# Altium schematic symbol library TIDA_00620.SchLib: 58 symbols (part 4 of 5)
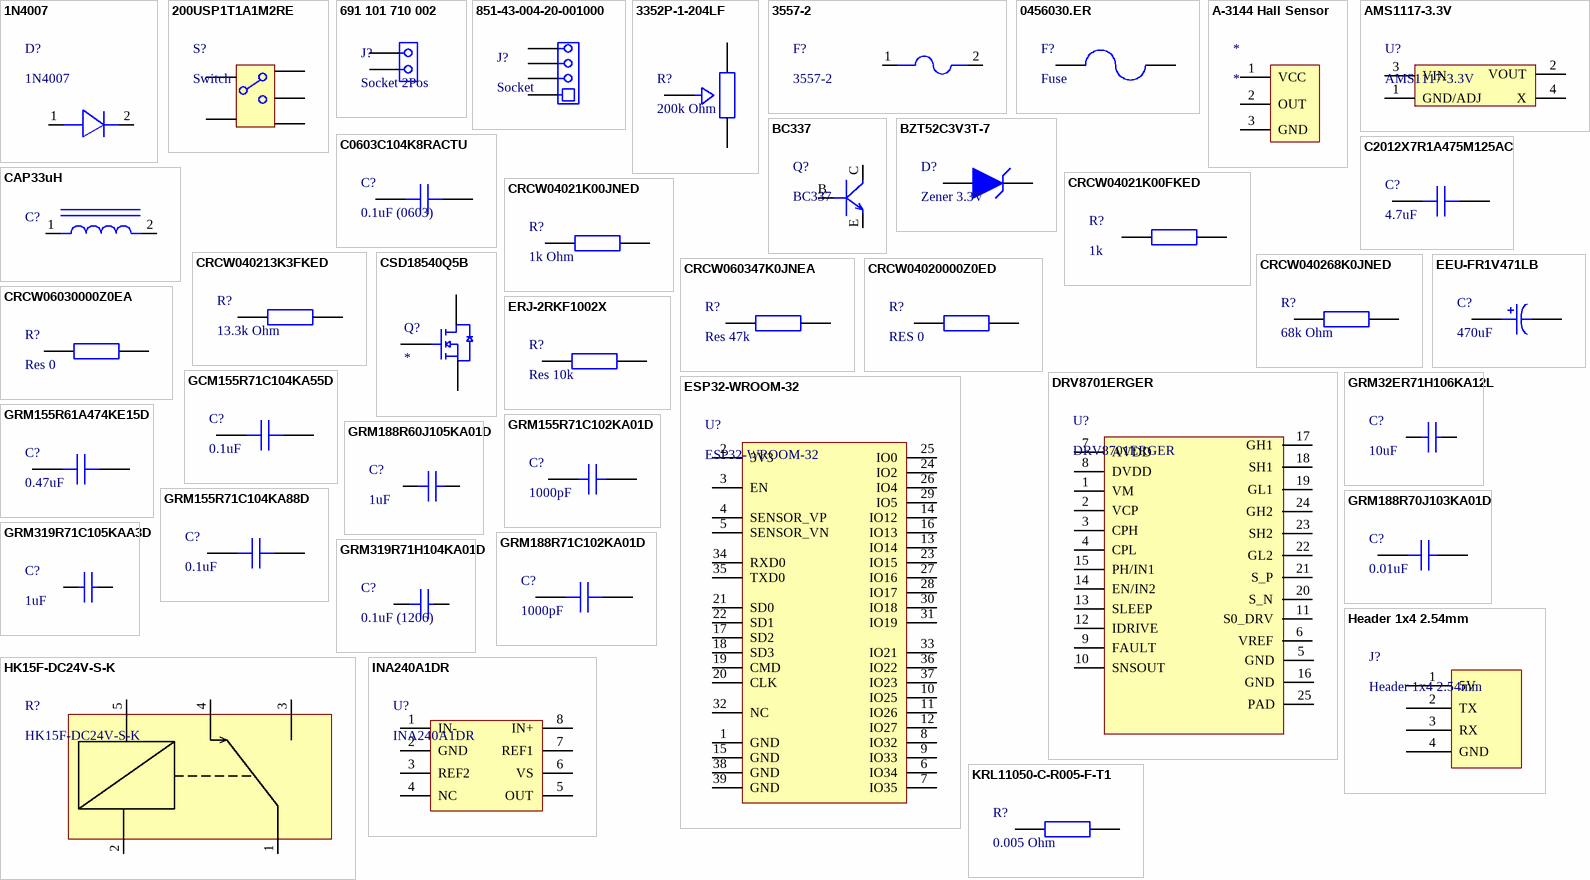
[diagram p4: symbols 1N4007 to KRL11050-C-R005-F-T1]

## GRM155R71C102KA01D
designator C?, comment 1000pF
0402 1 nF 16 V ±10% Tolerance X7R SMT Multilayer Ceramic Capacitor; Manufacturer: Murata; Manufacturer Part Number: GRM155R71C102KA01D; Manufacturer Lifecycle Status: NRND; Value: 1nF; Voltage: 16V; Supplier: Farnell; Supplier Part Number: 4326782; RoHS: Compliant; Category: Ceramic Capacitors; Stock: 42276; Pricing: 10=0,0163, 100=0,0134, 500=0,0086, 2500=0,0057, 5000=0,0056 (EUR); Case/Package: 0402; Case Code (Imperial): 0402; Case Code (Metric): 1005; Depth: 500µm; Dielectric: X7R; Dielectric Material: Ceramic; Height: 500µm; Lead Free: Lead Free; Length: 1mm; Lifecycle Status: NRND; Material: Ceramic; Max Operating Temperature: 125°C; Min Operating Temperature: -55°C; Mounting Technology: Surface Mount; Pins: 2; Number of Terminals: 2; Packaging: Cut Tape; Radiation Hardening: No; REACH SVHC: Yes; Schedule B: 8532240020, 8532240020|8532240020|8532240020|8532240020|8532240020; Termination: SMD/SMT; Thickness: 500µm; Tolerance: 10%; Voltage Rating: 16V; Voltage Rating (DC): 16V; Width: 500µm; ComponentLink1URL: https://datasheet.octopart.com:443/GRM155R71C102KA01D-Murata-datasheet-66077076.pdf?src-supplier=element14+APAC; ComponentLink1Description: https://datasheet.octopart.com:443/GRM155R71C102KA01D-Murata-datasheet-66077076.pdf?src-supplier=element14+APAC; ComponentLink2URL: https://datasheet.octopart.com:443/GRM155R71C102KA01D-Murata-datasheet-14400556.pdf?src-supplier=Future+Electronics; ComponentLink2Description: https://datasheet.octopart.com:443/GRM155R71C102KA01D-Murata-datasheet-14400556.pdf?src-supplier=Future+Electronics; ComponentLink3URL: https://datasheet.octopart.com:443/GRM155R71C102KA01D-Murata-datasheet-22122223.pdf?src-supplier=Future+Electronics; ComponentLink3Description: https://datasheet.octopart.com:443/GRM155R71C102KA01D-Murata-datasheet-22122223.pdf?src-supplier=Future+Electronics; ComponentLink4URL: https://datasheet.octopart.com:443/GRM155R71C102KA01D-Murata-datasheet-44106280.pdf?src-supplier=Future+Electronics; ComponentLink4Description: https://datasheet.octopart.com:443/GRM155R71C102KA01D-Murata-datasheet-44106280.pdf?src-supplier=Future+Electronics; ComponentLink5URL: https://datasheet.octopart.com:443/GRM155R71C102KA01D-Murata-datasheet-165579666.pdf?src-supplier=TME; ComponentLink5Description: https://datasheet.octopart.com:443/GRM155R71C102KA01D-Murata-datasheet-165579666.pdf?src-supplier=TME; ComponentLink6URL: https://datasheet.octopart.com:443/GRM155R71C102KA01D-Murata-datasheet-141266224.pdf?src-supplier=Ciiva; ComponentLink6Description: https://datasheet.octopart.com:443/GRM155R71C102KA01D-Murata-datasheet-141266224.pdf?src-supplier=Ciiva; ComponentLink7URL: https://datasheet.octopart.com:443/GRM155R71C102KA01D-Murata-datasheet-140690967.pdf?src-supplier=Ciiva; ComponentLink7Description: https://datasheet.octopart.com:443/GRM155R71C102KA01D-Murata-datasheet-140690967.pdf?src-supplier=Ciiva; ComponentLink8URL: https://datasheet.octopart.com:443/GRM155R71C102KA01D-Murata-datasheet-138740885.pdf?src-supplier=Ciiva; ComponentLink8Description: https://datasheet.octopart.com:443/GRM155R71C102KA01D-Murata-datasheet-138740885.pdf?src-supplier=Ciiva; ComponentLink9URL: https://datasheet.octopart.com/GRM155R71C102KA01D-Murata-datasheet-12515295.pdf; ComponentLink9Description: https://datasheet.octopart.com/GRM155R71C102KA01D-Murata-datasheet-12515295.pdf; ComponentLink10URL: https://datasheet.octopart.com/GRM155R71C102KA01D-Murata-datasheet-12510076.pdf; ComponentLink10Description: https://datasheet.octopart.com/GRM155R71C102KA01D-Murata-datasheet-12510076.pdf; ComponentLink11URL: https://datasheet.octopart.com/GRM155R71C102KA01D-Murata-datasheet-11978611.pdf; ComponentLink11Description: https://datasheet.octopart.com/GRM155R71C102KA01D-Murata-datasheet-11978611.pdf; ComponentLink12URL: https://datasheet.octopart.com/GRM155R71C102KA01D-Murata-datasheet-10025737.pdf; ComponentLink12Description: https://datasheet.octopart.com/GRM155R71C102KA01D-Murata-datasheet-10025737.pdf; ComponentLink13URL: https://datasheet.octopart.com/GRM155R71C102KA01D-Murata-datasheet-8819587.pdf; ComponentLink13Description: https://datasheet.octopart.com/GRM155R71C102KA01D-Murata-datasheet-8819587.pdf; ComponentLink14URL: http://sigma.octopart.com:80/reach_statement/Murata-company-16.pdf?src-supplier=Compliance+Statements; ComponentLink14Description: http://sigma.octopart.com:80/reach_statement/Murata-company-16.pdf?src-supplier=Compliance+Statements
footprint CAP0402- GRM155R71C102KA01D (Chip Capacitor, 2-Leads, Body 1,00x0,50mm, IPC Medium Density)
pins: 1, 2

## GRM155R71C104KA88D
designator C?, comment 0.1uF
16V 100nF X7R ±10% 0402 Multilayer Ceramic Capacitors MLCC - SMD/SMT ROHS; Manufacturer: Murata; Manufacturer Part Number: GRM155R71C104KA88D; Manufacturer Lifecycle Status: NRND; Insulation Resistance: 10GΩ; Supplier: Farnell; Supplier Part Number: 4327601; RoHS: Compliant; Category: Ceramic Capacitors; Stock: 260000; Pricing: 10000=0,0048 (EUR); Value: 100nF; Case/Package: 0402; Case Code (Imperial): 0402; Case Code (Metric): 1005; Depth: 500µm; Dielectric: X7R; Dielectric Material: Ceramic; Height: 500µm; Lead Free: Lead Free; Length: 1mm; Lifecycle Status: NRND; Material: Ceramic; Max Operating Temperature: 125°C; Min Operating Temperature: -55°C; Mounting Technology: Surface Mount; Pins: 2; Number of Terminals: 2; Packaging: Cut Tape; Radiation Hardening: No; REACH SVHC: Yes; Schedule B: 8532240020, 8532240020|8532240020|8532240020|8532240020|8532240020|8532240020|8532240020|8532240020|8532240020|8532240020|8532240020|8532240020|8532240020, 8532240020|8532240020|8532240020|8532240020|8532240020|8532240020|8532240020|8532240020|8532240020|8532240020|8532240020|8532240020|8532240020|8532240020, 8532240020|8532240020|8532240020|8532240020|8532240020|8532240020|8532240020|8532240020|8532240020|8532240020|8532240020|8532240020|8532240020|8532240020|8532240020; Termination: SMD/SMT; Thickness: 500µm; Tolerance: 10%; Voltage: 16V; Voltage Rating: 16V; Voltage Rating (DC): 16V; Width: 500µm; ComponentLink1URL: https://datasheet.octopart.com:443/GRM155R71C104KA88D-Murata-datasheet-6387203.pdf?src-supplier=Upverter; ComponentLink1Description: https://datasheet.octopart.com:443/GRM155R71C104KA88D-Murata-datasheet-6387203.pdf?src-supplier=Upverter; ComponentLink2URL: https://datasheet.octopart.com:443/GRM155R71C104KA88D-Murata-datasheet-501912.pdf?src-supplier=Farnell; ComponentLink2Description: https://datasheet.octopart.com:443/GRM155R71C104KA88D-Murata-datasheet-501912.pdf?src-supplier=Farnell; ComponentLink3URL: https://datasheet.octopart.com:443/GRM155R71C104KA88D-Murata-datasheet-62320226.pdf?src-supplier=Farnell; ComponentLink3Description: https://datasheet.octopart.com:443/GRM155R71C104KA88D-Murata-datasheet-62320226.pdf?src-supplier=Farnell; ComponentLink4URL: https://datasheet.octopart.com:443/GRM155R71C104KA88D-Murata-datasheet-514334.pdf?src-supplier=Farnell; ComponentLink4Description: https://datasheet.octopart.com:443/GRM155R71C104KA88D-Murata-datasheet-514334.pdf?src-supplier=Farnell; ComponentLink5URL: https://datasheet.octopart.com:443/GRM155R71C104KA88D-Murata-datasheet-165579666.pdf?src-supplier=TME; ComponentLink5Description: https://datasheet.octopart.com:443/GRM155R71C104KA88D-Murata-datasheet-165579666.pdf?src-supplier=TME; ComponentLink6URL: https://datasheet.octopart.com:443/GRM155R71C104KA88D-Murata-datasheet-81455578.pdf?src-supplier=TME; ComponentLink6Description: https://datasheet.octopart.com:443/GRM155R71C104KA88D-Murata-datasheet-81455578.pdf?src-supplier=TME; ComponentLink7URL: https://datasheet.octopart.com:443/GRM155R71C104KA88D-Murata-datasheet-59876780.pdf?src-supplier=TME; ComponentLink7Description: https://datasheet.octopart.com:443/GRM155R71C104KA88D-Murata-datasheet-59876780.pdf?src-supplier=TME; ComponentLink8URL: https://datasheet.octopart.com:443/GRM155R71C104KA88D-Murata-datasheet-141266224.pdf?src-supplier=Ciiva; ComponentLink8Description: https://datasheet.octopart.com:443/GRM155R71C104KA88D-Murata-datasheet-141266224.pdf?src-supplier=Ciiva; ComponentLink9URL: https://datasheet.octopart.com:443/GRM155R71C104KA88D-Murata-datasheet-140690972.pdf?src-supplier=Ciiva; ComponentLink9Description: https://datasheet.octopart.com:443/GRM155R71C104KA88D-Murata-datasheet-140690972.pdf?src-supplier=Ciiva; ComponentLink10URL: https://datasheet.octopart.com:443/GRM155R71C104KA88D-Murata-datasheet-138740890.pdf?src-supplier=Ciiva; ComponentLink10Description: https://datasheet.octopart.com:443/GRM155R71C104KA88D-Murata-datasheet-138740890.pdf?src-supplier=Ciiva; ComponentLink11URL: https://datasheet.octopart.com:443/GRM155R71C104KA88D-Murata-datasheet-120101189.pdf?src-supplier=Megastar; ComponentLink11Description: https://datasheet.octopart.com:443/GRM155R71C104KA88D-Murata-datasheet-120101189.pdf?src-supplier=Megastar; ComponentLink12URL: https://datasheet.octopart.com:443/GRM155R71C104KA88D-Murata-datasheet-96971104.pdf?src-supplier=Future+Electronics; ComponentLink12Description: https://datasheet.octopart.com:443/GRM155R71C104KA88D-Murata-datasheet-96971104.pdf?src-supplier=Future+Electronics; ComponentLink13URL: https://datasheet.octopart.com:443/GRM155R71C104KA88D-Murata-datasheet-22122223.pdf?src-supplier=Future+Electronics; ComponentLink13Description: https://datasheet.octopart.com:443/GRM155R71C104KA88D-Murata-datasheet-22122223.pdf?src-supplier=Future+Electronics; ComponentLink14URL: https://datasheet.octopart.com:443/GRM155R71C104KA88D-Murata-datasheet-14400564.pdf?src-supplier=Future+Electronics; ComponentLink14Description: https://datasheet.octopart.com:443/GRM155R71C104KA88D-Murata-datasheet-14400564.pdf?src-supplier=Future+Electronics; ComponentLink15URL: https://datasheet.octopart.com:443/GRM155R71C104KA88D-Murata-datasheet-44106293.pdf?src-supplier=Future+Electronics; ComponentLink15Description: https://datasheet.octopart.com:443/GRM155R71C104KA88D-Murata-datasheet-44106293.pdf?src-supplier=Future+Electronics; ComponentLink16URL: https://datasheet.octopart.com/GRM155R71C104KA88D-Murata-datasheet-12515295.pdf; ComponentLink16Description: https://datasheet.octopart.com/GRM155R71C104KA88D-Murata-datasheet-12515295.pdf; ComponentLink17URL: https://datasheet.octopart.com/GRM155R71C104KA88D-Murata-datasheet-12510076.pdf; ComponentLink17Description: https://datasheet.octopart.com/GRM155R71C104KA88D-Murata-datasheet-12510076.pdf; ComponentLink18URL: https://datasheet.octopart.com/GRM155R71C104KA88D-Murata-datasheet-11978611.pdf; ComponentLink18Description: https://datasheet.octopart.com/GRM155R71C104KA88D-Murata-datasheet-11978611.pdf; ComponentLink19URL: https://datasheet.octopart.com/GRM155R71C104KA88D-Murata-datasheet-10025737.pdf; ComponentLink19Description: https://datasheet.octopart.com/GRM155R71C104KA88D-Murata-datasheet-10025737.pdf; ComponentLink20URL: https://datasheet.octopart.com/GRM155R71C104KA88D-Murata-datasheet-8819587.pdf; ComponentLink20Description: https://datasheet.octopart.com/GRM155R71C104KA88D-Murata-datasheet-8819587.pdf; ComponentLink21URL: https://datasheet.octopart.com/GRM155R71C104KA88D-Murata-datasheet-12555248.pdf; ComponentLink21Description: https://datasheet.octopart.com/GRM155R71C104KA88D-Murata-datasheet-12555248.pdf; ComponentLink22URL: https://datasheet.octopart.com:443/GRM155R71C104KA88D-Murata-datasheet-11864723.pdf?src-supplier=Arrow+Electronics; ComponentLink22Description: https://datasheet.octopart.com:443/GRM155R71C104KA88D-Murata-datasheet-11864723.pdf?src-supplier=Arrow+Electronics; ComponentLink23URL: https://datasheet.octopart.com:443/GRM155R71C104KA88D-Murata-datasheet-148211.pdf?src-supplier=Garrett; ComponentLink23Description: https://datasheet.octopart.com:443/GRM155R71C104KA88D-Murata-datasheet-148211.pdf?src-supplier=Garrett; ComponentLink24URL: https://datasheet.octopart.com:443/GRM155R71C104KA88D-Murata-datasheet-118811.pdf?src-supplier=DigiKey; ComponentLink24Description: https://datasheet.octopart.com:443/GRM155R71C104KA88D-Murata-datasheet-118811.pdf?src-supplier=DigiKey; ComponentLink25URL: https://datasheet.octopart.com:443/GRM155R71C104KA88D-Murata-datasheet-38265814.pdf?src-supplier=Newark; ComponentLink25Description: https://datasheet.octopart.com:443/GRM155R71C104KA88D-Murata-datasheet-38265814.pdf?src-supplier=Newark; ComponentLink26URL: http://sigma.octopart.com:80/reach_statement/Murata-company-16.pdf?src-supplier=Compliance+Statements; ComponentLink26Description: http://sigma.octopart.com:80/reach_statement/Murata-company-16.pdf?src-supplier=Compliance+Statements
footprint CAP0402- GRM155R71C104KA88D (Chip Capacitor, 2-Leads, Body 1,00x0,50mm, IPC Medium Density)
pins: 1, 2

## GRM188R60J105KA01D
designator C?, comment 1uF
0603 1 uF 6.3 V ±10% Tolerance X5R SMT Multilayer Ceramic Capacitor; Manufacturer: Murata; Manufacturer Part Number: GRM188R60J105KA01D; Manufacturer Lifecycle Status: NRND; Value: 1µF; Insulation Resistance: 500MΩ; Voltage: 6.3V; Supplier: Future Electronics; Supplier Part Number: 7369507; RoHS: Compliant; Category: Ceramic Capacitors; Stock: 12000; Pricing: 4000=0,0061, 16000=0,0059, 40000=0,0057, 100000=0,0056, 160000=0,0054 (USD); Case/Package: 0603; Case Code (Imperial): 0603; Case Code (Metric): 1608; Depth: 800µm; Dielectric: X5R; Dielectric Material: Ceramic; Height: 800µm; Lead Free: Lead Free; Length: 1.6mm; Lifecycle Status: NRND; Material: Ceramic; Max Operating Temperature: 85°C; Min Operating Temperature: -55°C; Mounting Technology: Surface Mount; Pins: 2; Number of Terminals: 2; Radiation Hardening: No; REACH SVHC: Yes; Schedule B: 8532240020, 8532240020|8532240020, 8532240020|8532240020|8532240020, 8532240020|8532240020|8532240020|8532240020; Termination: SMD/SMT; Thickness: 800µm; Tolerance: 10%; Voltage Rating: 6.3V; Voltage Rating (DC): 6.3V; Width: 800µm; ComponentLink1URL: https://datasheet.octopart.com:443/GRM188R60J105KA01D-Murata-datasheet-7599024.pdf?src-supplier=Newark; ComponentLink1Description: https://datasheet.octopart.com:443/GRM188R60J105KA01D-Murata-datasheet-7599024.pdf?src-supplier=Newark; ComponentLink2URL: https://datasheet.octopart.com:443/GRM188R60J105KA01D-Murata-datasheet-101584256.pdf?src-supplier=element14+APAC; ComponentLink2Description: https://datasheet.octopart.com:443/GRM188R60J105KA01D-Murata-datasheet-101584256.pdf?src-supplier=element14+APAC; ComponentLink3URL: https://datasheet.octopart.com:443/GRM188R60J105KA01D-Murata-datasheet-49135294.pdf?src-supplier=element14+APAC; ComponentLink3Description: https://datasheet.octopart.com:443/GRM188R60J105KA01D-Murata-datasheet-49135294.pdf?src-supplier=element14+APAC; ComponentLink4URL: https://datasheet.octopart.com:443/GRM188R60J105KA01D-Murata-datasheet-165579666.pdf?src-supplier=TME; ComponentLink4Description: https://datasheet.octopart.com:443/GRM188R60J105KA01D-Murata-datasheet-165579666.pdf?src-supplier=TME; ComponentLink5URL: https://datasheet.octopart.com:443/GRM188R60J105KA01D-Murata-datasheet-59876780.pdf?src-supplier=TME; ComponentLink5Description: https://datasheet.octopart.com:443/GRM188R60J105KA01D-Murata-datasheet-59876780.pdf?src-supplier=TME; ComponentLink6URL: https://datasheet.octopart.com:443/GRM188R60J105KA01D-Murata-datasheet-140704005.pdf?src-supplier=Ciiva; ComponentLink6Description: https://datasheet.octopart.com:443/GRM188R60J105KA01D-Murata-datasheet-140704005.pdf?src-supplier=Ciiva; ComponentLink7URL: https://datasheet.octopart.com:443/GRM188R60J105KA01D-Murata-datasheet-138742778.pdf?src-supplier=Ciiva; ComponentLink7Description: https://datasheet.octopart.com:443/GRM188R60J105KA01D-Murata-datasheet-138742778.pdf?src-supplier=Ciiva; ComponentLink8URL: https://datasheet.octopart.com:443/GRM188R60J105KA01D-Murata-datasheet-102370999.pdf?src-supplier=Future+Electronics; ComponentLink8Description: https://datasheet.octopart.com:443/GRM188R60J105KA01D-Murata-datasheet-102370999.pdf?src-supplier=Future+Electronics; ComponentLink9URL: https://datasheet.octopart.com:443/GRM188R60J105KA01D-Murata-datasheet-22122223.pdf?src-supplier=Future+Electronics; ComponentLink9Description: https://datasheet.octopart.com:443/GRM188R60J105KA01D-Murata-datasheet-22122223.pdf?src-supplier=Future+Electronics; ComponentLink10URL: https://datasheet.octopart.com:443/GRM188R60J105KA01D-Murata-datasheet-14400986.pdf?src-supplier=Future+Electronics; ComponentLink10Description: https://datasheet.octopart.com:443/GRM188R60J105KA01D-Murata-datasheet-14400986.pdf?src-supplier=Future+Electronics; ComponentLink11URL: https://datasheet.octopart.com:443/GRM188R60J105KA01D-Murata-datasheet-44107491.pdf?src-supplier=Future+Electronics; ComponentLink11Description: https://datasheet.octopart.com:443/GRM188R60J105KA01D-Murata-datasheet-44107491.pdf?src-supplier=Future+Electronics; ComponentLink12URL: https://datasheet.octopart.com/GRM188R60J105KA01D-Murata-datasheet-12515295.pdf; ComponentLink12Description: https://datasheet.octopart.com/GRM188R60J105KA01D-Murata-datasheet-12515295.pdf; ComponentLink13URL: https://datasheet.octopart.com/GRM188R60J105KA01D-Murata-datasheet-12510076.pdf; ComponentLink13Description: https://datasheet.octopart.com/GRM188R60J105KA01D-Murata-datasheet-12510076.pdf; ComponentLink14URL: https://datasheet.octopart.com/GRM188R60J105KA01D-Murata-datasheet-11978611.pdf; ComponentLink14Description: https://datasheet.octopart.com/GRM188R60J105KA01D-Murata-datasheet-11978611.pdf; ComponentLink15URL: https://datasheet.octopart.com/GRM188R60J105KA01D-Murata-datasheet-10025737.pdf; ComponentLink15Description: https://datasheet.octopart.com/GRM188R60J105KA01D-Murata-datasheet-10025737.pdf; ComponentLink16URL: https://datasheet.octopart.com/GRM188R60J105KA01D-Murata-datasheet-8819587.pdf; ComponentLink16Description: https://datasheet.octopart.com/GRM188R60J105KA01D-Murata-datasheet-8819587.pdf; ComponentLink17URL: https://datasheet.octopart.com/GRM188R60J105KA01D-Murata-datasheet-14401024.pdf; ComponentLink17Description: https://datasheet.octopart.com/GRM188R60J105KA01D-Murata-datasheet-14401024.pdf; ComponentLink18URL: https://datasheet.octopart.com:443/GRM188R60J105KA01D-Murata-datasheet-102.pdf?src-supplier=DigiKey; ComponentLink18Description: https://datasheet.octopart.com:443/GRM188R60J105KA01D-Murata-datasheet-102.pdf?src-supplier=DigiKey; ComponentLink19URL: https://datasheet.octopart.com:443/GRM188R60J105KA01D-Murata-datasheet-112596.pdf?src-supplier=Sierra+IC; ComponentLink19Description: https://datasheet.octopart.com:443/GRM188R60J105KA01D-Murata-datasheet-112596.pdf?src-supplier=Sierra+IC; ComponentLink20URL: https://datasheet.octopart.com:443/GRM188R60J105KA01D-Murata-datasheet-516848.pdf?src-supplier=Farnell; ComponentLink20Description: https://datasheet.octopart.com:443/GRM188R60J105KA01D-Murata-datasheet-516848.pdf?src-supplier=Farnell; ComponentLink21URL: http://sigma.octopart.com:80/reach_statement/Murata-company-16.pdf?src-supplier=Compliance+Statements; ComponentLink21Description: http://sigma.octopart.com:80/reach_statement/Murata-company-16.pdf?src-supplier=Compliance+Statements
footprint CAP0603-GRM188R60J105KA01D (Chip Capacitor, 2-Leads, Body 1,60x0,80mm, IPC Medium Density)
pins: 1, 2

## GRM188R70J103KA01D
designator C?, comment 0.01uF
CAP CER 10000PF 6.3V X7R 0603; Manufacturer: Murata; Tolerance: ±10%; Capacitance: 10000 pF; Voltage - Rated: 6.3V; Package / Case: 0603 (1608 Metric)
footprint CAP0603- GRM188R70J103KA01D (Chip Capacitor, 2-Leads, Body 1,60x0,80mm, IPC Medium Density)
pins: 1, 2

## GRM188R71C102KA01D
designator C?, comment 1000pF
1000 pF ±10% 16V Ceramic Capacitor X7R 0603 (1608 Metric); Manufecturer: Murata; Designed: Emre; Capacitance: 1000 pF; Tolerance: ±10%; Voltage - Rated: 16V; Operating Temperature: -55°C ~ 125°C; Package / Case: 0603 (1608 Metric); DataSheet: https://search.murata.co.jp/Ceramy/image/img/A01X/G101/ENG/GRM188R71C102KA01-01.pdf
footprint CAP0603- GRM188R71C102KA01D (Chip Capacitor, 2-Leads, Body 1,60x0,75mm, IPC Medium Density)
pins: 1, 2

## GRM319R71C105KAA3D
designator C?, comment 1uF
1206 1 uF 16 V ±10 % Tol. X7R Surface Mount Multilayer Ceramic Capacitor; Manufacturer: Murata; Manufacturer Part Number: GRM319R71C105KAA3D; Manufacturer Lifecycle Status: NRND; Value: 1µF; Tolerance: 10%; Voltage: 16V; Supplier: Arrow Electronics; Supplier Part Number: GRM319R71C105KAA3D; RoHS: Compliant; Category: Ceramic Capacitors; Stock: 2396; Pricing: 2247=0,0445 (USD); Case/Package: 1206; Case Code (Imperial): 1206; Case Code (Metric): 3216; China RoHS: Compliant; Depth: 1.6mm; Dielectric: X7R; Dielectric Material: Ceramic; Height: 850µm; Lead Free: Lead Free; Length: 3.2mm; Lifecycle Status: NRND; Material: Ceramic; Max Operating Temperature: 125°C; Min Operating Temperature: -55°C; Mounting Technology: Surface Mount; Number of Terminals: 2; Radiation Hardening: No; REACH SVHC: Yes; Schedule B: 8532240020, 8532240020|8532240020|8532240020|8532240020|8532240020; Termination: SMD/SMT; Thickness: 850µm; Voltage Rating: 16V; Voltage Rating (DC): 16V; Width: 1.6mm; ComponentLink1URL: https://datasheet.octopart.com:443/GRM319R71C105KAA3D-Murata-datasheet-11966710.pdf?src-supplier=_legacy+Avnet; ComponentLink1Description: https://datasheet.octopart.com:443/GRM319R71C105KAA3D-Murata-datasheet-11966710.pdf?src-supplier=_legacy+Avnet; ComponentLink2URL: https://datasheet.octopart.com:443/GRM319R71C105KAA3D-Murata-datasheet-165579666.pdf?src-supplier=TME; ComponentLink2Description: https://datasheet.octopart.com:443/GRM319R71C105KAA3D-Murata-datasheet-165579666.pdf?src-supplier=TME; ComponentLink3URL: https://datasheet.octopart.com:443/GRM319R71C105KAA3D-Murata-datasheet-59876780.pdf?src-supplier=TME; ComponentLink3Description: https://datasheet.octopart.com:443/GRM319R71C105KAA3D-Murata-datasheet-59876780.pdf?src-supplier=TME; ComponentLink4URL: https://datasheet.octopart.com:443/GRM319R71C105KAA3D-Murata-datasheet-140708078.pdf?src-supplier=Ciiva; ComponentLink4Description: https://datasheet.octopart.com:443/GRM319R71C105KAA3D-Murata-datasheet-140708078.pdf?src-supplier=Ciiva; ComponentLink5URL: https://datasheet.octopart.com:443/GRM319R71C105KAA3D-Murata-datasheet-140706587.pdf?src-supplier=Ciiva; ComponentLink5Description: https://datasheet.octopart.com:443/GRM319R71C105KAA3D-Murata-datasheet-140706587.pdf?src-supplier=Ciiva; ComponentLink6URL: https://datasheet.octopart.com:443/GRM319R71C105KAA3D-Murata-datasheet-138745384.pdf?src-supplier=Ciiva; ComponentLink6Description: https://datasheet.octopart.com:443/GRM319R71C105KAA3D-Murata-datasheet-138745384.pdf?src-supplier=Ciiva; ComponentLink7URL: https://datasheet.octopart.com:443/GRM319R71C105KAA3D-Murata-datasheet-22122223.pdf?src-supplier=Future+Electronics; ComponentLink7Description: https://datasheet.octopart.com:443/GRM319R71C105KAA3D-Murata-datasheet-22122223.pdf?src-supplier=Future+Electronics; ComponentLink8URL: https://datasheet.octopart.com:443/GRM319R71C105KAA3D-Murata-datasheet-14402607.pdf?src-supplier=Future+Electronics; ComponentLink8Description: https://datasheet.octopart.com:443/GRM319R71C105KAA3D-Murata-datasheet-14402607.pdf?src-supplier=Future+Electronics; ComponentLink9URL: https://datasheet.octopart.com:443/GRM319R71C105KAA3D-Murata-datasheet-44109134.pdf?src-supplier=Future+Electronics; ComponentLink9Description: https://datasheet.octopart.com:443/GRM319R71C105KAA3D-Murata-datasheet-44109134.pdf?src-supplier=Future+Electronics; ComponentLink10URL: https://datasheet.octopart.com/GRM319R71C105KAA3D-Murata-datasheet-12515295.pdf; ComponentLink10Description: https://datasheet.octopart.com/GRM319R71C105KAA3D-Murata-datasheet-12515295.pdf; ComponentLink11URL: https://datasheet.octopart.com/GRM319R71C105KAA3D-Murata-datasheet-12510076.pdf; ComponentLink11Description: https://datasheet.octopart.com/GRM319R71C105KAA3D-Murata-datasheet-12510076.pdf; ComponentLink12URL: https://datasheet.octopart.com/GRM319R71C105KAA3D-Murata-datasheet-11978611.pdf; ComponentLink12Description: https://datasheet.octopart.com/GRM319R71C105KAA3D-Murata-datasheet-11978611.pdf; ComponentLink13URL: https://datasheet.octopart.com/GRM319R71C105KAA3D-Murata-datasheet-10025737.pdf; ComponentLink13Description: https://datasheet.octopart.com/GRM319R71C105KAA3D-Murata-datasheet-10025737.pdf; ComponentLink14URL: https://datasheet.octopart.com/GRM319R71C105KAA3D-Murata-datasheet-8819587.pdf; ComponentLink14Description: https://datasheet.octopart.com/GRM319R71C105KAA3D-Murata-datasheet-8819587.pdf; ComponentLink15URL: https://datasheet.octopart.com/GRM319R71C105KAA3D-Murata-datasheet-12526482.pdf; ComponentLink15Description: https://datasheet.octopart.com/GRM319R71C105KAA3D-Murata-datasheet-12526482.pdf; ComponentLink16URL: http://sigma.octopart.com:80/reach_statement/Murata-company-16.pdf?src-supplier=Compliance+Statements; ComponentLink16Description: http://sigma.octopart.com:80/reach_statement/Murata-company-16.pdf?src-supplier=Compliance+Statements
footprint CAP1206- GRM319R71C105KAA3D (Chip Capacitor, 2-Leads, Body 3,20x1,60mm, IPC Medium Density)
pins: 1, 2

## GRM319R71H104KA01D
designator C?, comment 0.1uF (1206)
1206 0.1 uF 50 V ±10 % Tolerance X7R Surface Mount Multilayer Ceramic Capacitor; Manufacturer: Murata; Manufacturer Part Number: GRM319R71H104KA01D; Manufacturer Lifecycle Status: TO BE DISCONTINUED; Value: 100nF; Tolerance: 10%; Voltage: 50V; Supplier: Farnell; Supplier Part Number: 4740640; RoHS: Compliant; Category: Ceramic Capacitors; Stock: 20000; Pricing: 10=0,0587, 250=0,0579, 1000=0,0571, 5000=0,0471, 10000=0,0436, 20000=0,0346 (EUR); Case/Package: 1206; Case Code (Imperial): 1206; Case Code (Metric): 3216; Depth: 1.6mm; Dielectric: X7R; Dielectric Material: Ceramic; Height: 850µm; Lead Free: Lead Free; Lead Pitch: 4mm; Length: 3.2mm; Lifecycle Status: EOL; Material: Ceramic; Max Operating Temperature: 125°C; Min Operating Temperature: -55°C; Mounting Technology: Surface Mount; Pins: 2; Number of Terminals: 2; Packaging: Tape and Reel; REACH SVHC: Yes; Schedule B: 8532240020; Termination: SMD/SMT; Thickness: 850µm; Voltage Rating: 50V; Voltage Rating (DC): 50V; Width: 1.6mm; ComponentLink1URL: https://datasheet.octopart.com/GRM319R71H104KA01D-Murata-datasheet-12515295.pdf; ComponentLink1Description: https://datasheet.octopart.com/GRM319R71H104KA01D-Murata-datasheet-12515295.pdf; ComponentLink2URL: https://datasheet.octopart.com/GRM319R71H104KA01D-Murata-datasheet-12510076.pdf; ComponentLink2Description: https://datasheet.octopart.com/GRM319R71H104KA01D-Murata-datasheet-12510076.pdf; ComponentLink3URL: https://datasheet.octopart.com/GRM319R71H104KA01D-Murata-datasheet-11978611.pdf; ComponentLink3Description: https://datasheet.octopart.com/GRM319R71H104KA01D-Murata-datasheet-11978611.pdf; ComponentLink4URL: https://datasheet.octopart.com/GRM319R71H104KA01D-Murata-datasheet-10025737.pdf; ComponentLink4Description: https://datasheet.octopart.com/GRM319R71H104KA01D-Murata-datasheet-10025737.pdf; ComponentLink5URL: https://datasheet.octopart.com/GRM319R71H104KA01D-Murata-datasheet-8819587.pdf; ComponentLink5Description: https://datasheet.octopart.com/GRM319R71H104KA01D-Murata-datasheet-8819587.pdf; ComponentLink6URL: https://datasheet.octopart.com/GRM319R71H104KA01D-Murata-datasheet-14402634.pdf; ComponentLink6Description: https://datasheet.octopart.com/GRM319R71H104KA01D-Murata-datasheet-14402634.pdf; ComponentLink7URL: https://datasheet.octopart.com:443/GRM319R71H104KA01D-Murata-datasheet-8817987.pdf?src-supplier=element14+APAC; ComponentLink7Description: https://datasheet.octopart.com:443/GRM319R71H104KA01D-Murata-datasheet-8817987.pdf?src-supplier=element14+APAC; ComponentLink8URL: https://datasheet.octopart.com:443/GRM319R71H104KA01D-Murata-datasheet-62317312.pdf?src-supplier=element14+APAC; ComponentLink8Description: https://datasheet.octopart.com:443/GRM319R71H104KA01D-Murata-datasheet-62317312.pdf?src-supplier=element14+APAC; ComponentLink9URL: https://datasheet.octopart.com:443/GRM319R71H104KA01D-Murata-datasheet-165579666.pdf?src-supplier=TME; ComponentLink9Description: https://datasheet.octopart.com:443/GRM319R71H104KA01D-Murata-datasheet-165579666.pdf?src-supplier=TME; ComponentLink10URL: https://datasheet.octopart.com:443/GRM319R71H104KA01D-Murata-datasheet-59876780.pdf?src-supplier=TME; ComponentLink10Description: https://datasheet.octopart.com:443/GRM319R71H104KA01D-Murata-datasheet-59876780.pdf?src-supplier=TME; ComponentLink11URL: https://datasheet.octopart.com:443/GRM319R71H104KA01D-Murata-datasheet-140708136.pdf?src-supplier=Ciiva; ComponentLink11Description: https://datasheet.octopart.com:443/GRM319R71H104KA01D-Murata-datasheet-140708136.pdf?src-supplier=Ciiva; ComponentLink12URL: https://datasheet.octopart.com:443/GRM319R71H104KA01D-Murata-datasheet-140706587.pdf?src-supplier=Ciiva; ComponentLink12Description: https://datasheet.octopart.com:443/GRM319R71H104KA01D-Murata-datasheet-140706587.pdf?src-supplier=Ciiva; ComponentLink13URL: https://datasheet.octopart.com:443/GRM319R71H104KA01D-Murata-datasheet-138745441.pdf?src-supplier=Ciiva; ComponentLink13Description: https://datasheet.octopart.com:443/GRM319R71H104KA01D-Murata-datasheet-138745441.pdf?src-supplier=Ciiva; ComponentLink14URL: https://datasheet.octopart.com:443/GRM319R71H104KA01D-Murata-datasheet-22122223.pdf?src-supplier=Future+Electronics; ComponentLink14Description: https://datasheet.octopart.com:443/GRM319R71H104KA01D-Murata-datasheet-22122223.pdf?src-supplier=Future+Electronics; ComponentLink15URL: https://datasheet.octopart.com:443/GRM319R71H104KA01D-Murata-datasheet-12510170.pdf?src-supplier=Future+Electronics; ComponentLink15Description: https://datasheet.octopart.com:443/GRM319R71H104KA01D-Murata-datasheet-12510170.pdf?src-supplier=Future+Electronics; ComponentLink16URL: https://datasheet.octopart.com:443/GRM319R71H104KA01D-Murata-datasheet-8517407.pdf?src-supplier=Future+Electronics; ComponentLink16Description: https://datasheet.octopart.com:443/GRM319R71H104KA01D-Murata-datasheet-8517407.pdf?src-supplier=Future+Electronics; ComponentLink17URL: https://datasheet.octopart.com:443/GRM319R71H104KA01D-Murata-datasheet-8387045.pdf?src-supplier=Future+Electronics; ComponentLink17Description: https://datasheet.octopart.com:443/GRM319R71H104KA01D-Murata-datasheet-8387045.pdf?src-supplier=Future+Electronics; ComponentLink18URL: https://datasheet.octopart.com:443/GRM319R71H104KA01D-Murata-datasheet-8324201.pdf?src-supplier=Future+Electronics; ComponentLink18Description: https://datasheet.octopart.com:443/GRM319R71H104KA01D-Murata-datasheet-8324201.pdf?src-supplier=Future+Electronics; ComponentLink19URL: https://datasheet.octopart.com:443/GRM319R71H104KA01D-Murata-datasheet-7628724.pdf?src-supplier=Future+Electronics; ComponentLink19Description: https://datasheet.octopart.com:443/GRM319R71H104KA01D-Murata-datasheet-7628724.pdf?src-supplier=Future+Electronics; ComponentLink20URL: https://datasheet.octopart.com:443/GRM319R71H104KA01D-Murata-datasheet-552801.pdf?src-supplier=Future+Electronics; ComponentLink20Description: https://datasheet.octopart.com:443/GRM319R71H104KA01D-Murata-datasheet-552801.pdf?src-supplier=Future+Electronics; ComponentLink21URL: https://datasheet.octopart.com:443/GRM319R71H104KA01D-Murata-datasheet-44782018.pdf?src-supplier=Future+Electronics; ComponentLink21Description: https://datasheet.octopart.com:443/GRM319R71H104KA01D-Murata-datasheet-44782018.pdf?src-supplier=Future+Electronics; ComponentLink22URL: https://datasheet.octopart.com:443/GRM319R71H104KA01D-Murata-datasheet-7618416.pdf?src-supplier=Jameco; ComponentLink22Description: https://datasheet.octopart.com:443/GRM319R71H104KA01D-Murata-datasheet-7618416.pdf?src-supplier=Jameco; ComponentLink23URL: https://datasheet.octopart.com:443/GRM319R71H104KA01D-Murata-datasheet-148214.pdf?src-supplier=Garrett; ComponentLink23Description: https://datasheet.octopart.com:443/GRM319R71H104KA01D-Murata-datasheet-148214.pdf?src-supplier=Garrett; ComponentLink24URL: https://datasheet.octopart.com:443/GRM319R71H104KA01D-Murata-datasheet-102.pdf?src-supplier=DigiKey; ComponentLink24Description: https://datasheet.octopart.com:443/GRM319R71H104KA01D-Murata-datasheet-102.pdf?src-supplier=DigiKey; ComponentLink25URL: https://datasheet.octopart.com:443/GRM319R71H104KA01D-Murata-datasheet-112596.pdf?src-supplier=Sierra+IC; ComponentLink25Description: https://datasheet.octopart.com:443/GRM319R71H104KA01D-Murata-datasheet-112596.pdf?src-supplier=Sierra+IC; ComponentLink26URL: http://sigma.octopart.com:80/reach_statement/Murata-company-16.pdf?src-supplier=Compliance+Statements; ComponentLink26Description: http://sigma.octopart.com:80/reach_statement/Murata-company-16.pdf?src-supplier=Compliance+Statements
footprint CAP1206- GRM319R71H104KA01D (Chip Capacitor, 2-Leads, Body 3,20x1,60mm, IPC Medium Density)
pins: 1, 2

## Header 1x4 2.54mm
designator J?
footprint Header 1x4 2.54mm
pins: 1 5V, 2 TX, 3 RX, 4 GND

## HK15F-DC24V-S-K
designator R?
24V 30A Amperli T Röle HK15F-DC24V-S-K
footprint HK15F-DC24V-S-K
pins: 1, 2, 3, 4, 5

## INA240A1DR
designator U?
Op Amp Single Zero Drift Amplifier 5.5V 8-Pin SOIC T/R; Manufacturer: Texas Instruments; Manufacturer Lifecycle Status: ACTIVE; Bandwidth: 400kHz; Input Bias Current: 90µA; Input Offset Voltage (Vos): 5µV; Max Junction Temperature (Tj): 150°C; Min Supply Voltage: 2.7V; Nominal Supply Current: 1.8mA; Number of Channels: 1; Response Time: 9.6µs; Supplier: Mouser; Supplier Part Number: 595-INA240A1DR; Manufacturer Part Number: INA240A1DR; RoHS: Compliant; Category: Amplifiers - Op Amps, Buffer, Instrumentation; Stock: 3431; Pricing: 1=3,25, 10=2,43, 50=2,23, 100=2, 1000=1,78, 10000=1,72 (USD); Ambient Temperature Range High: 125°C; Case/Package: SOIC; Height: 1.75mm; Length: 4.9mm; Lifecycle Status: Production; Max Operating Temperature: 125°C; Max Supply Voltage: 5.5V; Min Operating Temperature: -40°C; Pins: 8; Schedule B: 8542390000; Thickness: 1.58mm; Width: 3.91mm; ComponentLink1URL: https://octopart.com:443/opatz8j6/c1?t=p-PgJrBFAr8xA6fUixjtJEPcygJhrUZgODNz6c-SVpAmd7h37absvwpdDSscf9_fUmiKMwmbz2Q6SpPSRPK0336Y4rwoY2Iitpj1kQqgpHpu2wssLHzjzgpYb186uSYTS6YEsI_uj73frUpw-DEzwRcxR0ogwW3lRb3qsMkRbUBukn47oyCbq071jaAY9MBIGZHLBKoenuXvNUOOPTiu_AwXT_jyV2VnXKSY5WodKwTBRxbLrd8wybhHTZ-no2vx-8xHMNuLRnvfPdC5L6Uakl6jnnSBLaOPQcPi__H6nHpuj7xnvw3vNJogrSGHRjAs9vvVE426YQ9TVA4noLKO4DGM7J69EemgYwMsMjUeoZ3UwrNR1hR4201P9ZR_y-TiABf4pg&src-supplier=Texas+Instruments; ComponentLink1Description: https://octopart.com:443/opatz8j6/c1?t=p-PgJrBFAr8xA6fUixjtJEPcygJhrUZgODNz6c-SVpAmd7h37absvwpdDSscf9_fUmiKMwmbz2Q6SpPSRPK0336Y4rwoY2Iitpj1kQqgpHpu2wssLHzjzgpYb186uSYTS6YEsI_uj73frUpw-DEzwRcxR0ogwW3lRb3qsMkRbUBukn47oyCbq071jaAY9MBIGZHLBKoenuXvNUOOPTiu_AwXT_jyV2VnXKSY5WodKwTBRxbLrd8wybhHTZ-no2vx-8xHMNuLRnvfPdC5L6Uakl6jnnSBLaOPQcPi__H6nHpuj7xnvw3vNJogrSGHRjAs9vvVE426YQ9TVA4noLKO4DGM7J69EemgYwMsMjUeoZ3UwrNR1hR4201P9ZR_y-TiABf4pg&src-supplier=Texas+Instruments; ComponentLink2URL: https://sigma.octopart.com:443/49249642/technical_drawing/Texas-Instruments-INA240A1DR.pdf?src-supplier=Texas+Instruments; ComponentLink2Description: https://sigma.octopart.com:443/49249642/technical_drawing/Texas-Instruments-INA240A1DR.pdf?src-supplier=Texas+Instruments; ComponentLink3URL: https://datasheet.octopart.com:443/INA240A1DR-Texas-Instruments-datasheet-147851276.pdf?src-supplier=SHENGYU+ELECTRONICS; ComponentLink3Description: https://datasheet.octopart.com:443/INA240A1DR-Texas-Instruments-datasheet-147851276.pdf?src-supplier=SHENGYU+ELECTRONICS; ComponentLink4URL: https://datasheet.octopart.com:443/INA240A1DR-Texas-Instruments-datasheet-140571434.pdf?src-supplier=Arrow.cn; ComponentLink4Description: https://datasheet.octopart.com:443/INA240A1DR-Texas-Instruments-datasheet-140571434.pdf?src-supplier=Arrow.cn; ComponentLink5URL: http://sigma.octopart.com:80/reach_statement/Texas-Instruments-company-64.pdf?src-supplier=Compliance+Statements; ComponentLink5Description: http://sigma.octopart.com:80/reach_statement/Texas-Instruments-company-64.pdf?src-supplier=Compliance+Statements; ComponentLink6URL: http://sigma.octopart.com:80/conflict_mineral_statement/Texas-Instruments-company-63.pdf?src-supplier=Compliance+Statements; ComponentLink6Description: http://sigma.octopart.com:80/conflict_mineral_statement/Texas-Instruments-company-63.pdf?src-supplier=Compliance+Statements
footprint INA240A1DR
pins: 1 IN-, 2 GND, 3 REF2, 4 NC, 5 OUT, 6 VS, 7 REF1, 8 IN+

## KRL11050-C-R005-F-T1
designator R?, comment 0.005 Ohm
Fixed Resistor, Metal Foil, 5W, 0.005ohm, 1% +/-Tol, 50ppm/Cel, Surface Mount, 4320; Manufacturer: Susumu; Manufacturer Part Number: KRL11050-C-R005-F-T1; Value: 5mΩ; Temperature Coefficient: 50ppm/°C; Supplier: Mouser; Supplier Part Number: 754-KRL11050CR005FT1; RoHS: Compliant; Category: Chip SMD Resistors; Stock: 172; Pricing: 1=3,22, 10=2,74, 50=2,74, 100=2,68, 1000=1,12, 10000=1,12 (USD); Case/Package: 4320; Case Code (Imperial): 4320; Composition: Metal Foil; Height: 500µm; Length: 11mm; Lifecycle Status: Production; Max Operating Temperature: 170°C; Max Power Dissipation: 5W; Max Thickness: 700µm; Min Operating Temperature: -55°C; Mounting Technology: Surface Mount; Number of Terminals: 2; Number of Terminations: 2; Packaging: Tape & Reel (TR); Power Dissipation: 5W; Power Rating: 5W; REACH SVHC: Yes; Termination: SMD/SMT; Tolerance: 1%; Width: 5mm; ComponentLink1URL: https://datasheet.octopart.com:443/KRL11050-C-R005-F-T1-Susumu-datasheet-12512222.pdf?src-supplier=IHS; ComponentLink1Description: https://datasheet.octopart.com:443/KRL11050-C-R005-F-T1-Susumu-datasheet-12512222.pdf?src-supplier=IHS
footprint KRL11050-C-R005-F-T1
pins: 1, 2

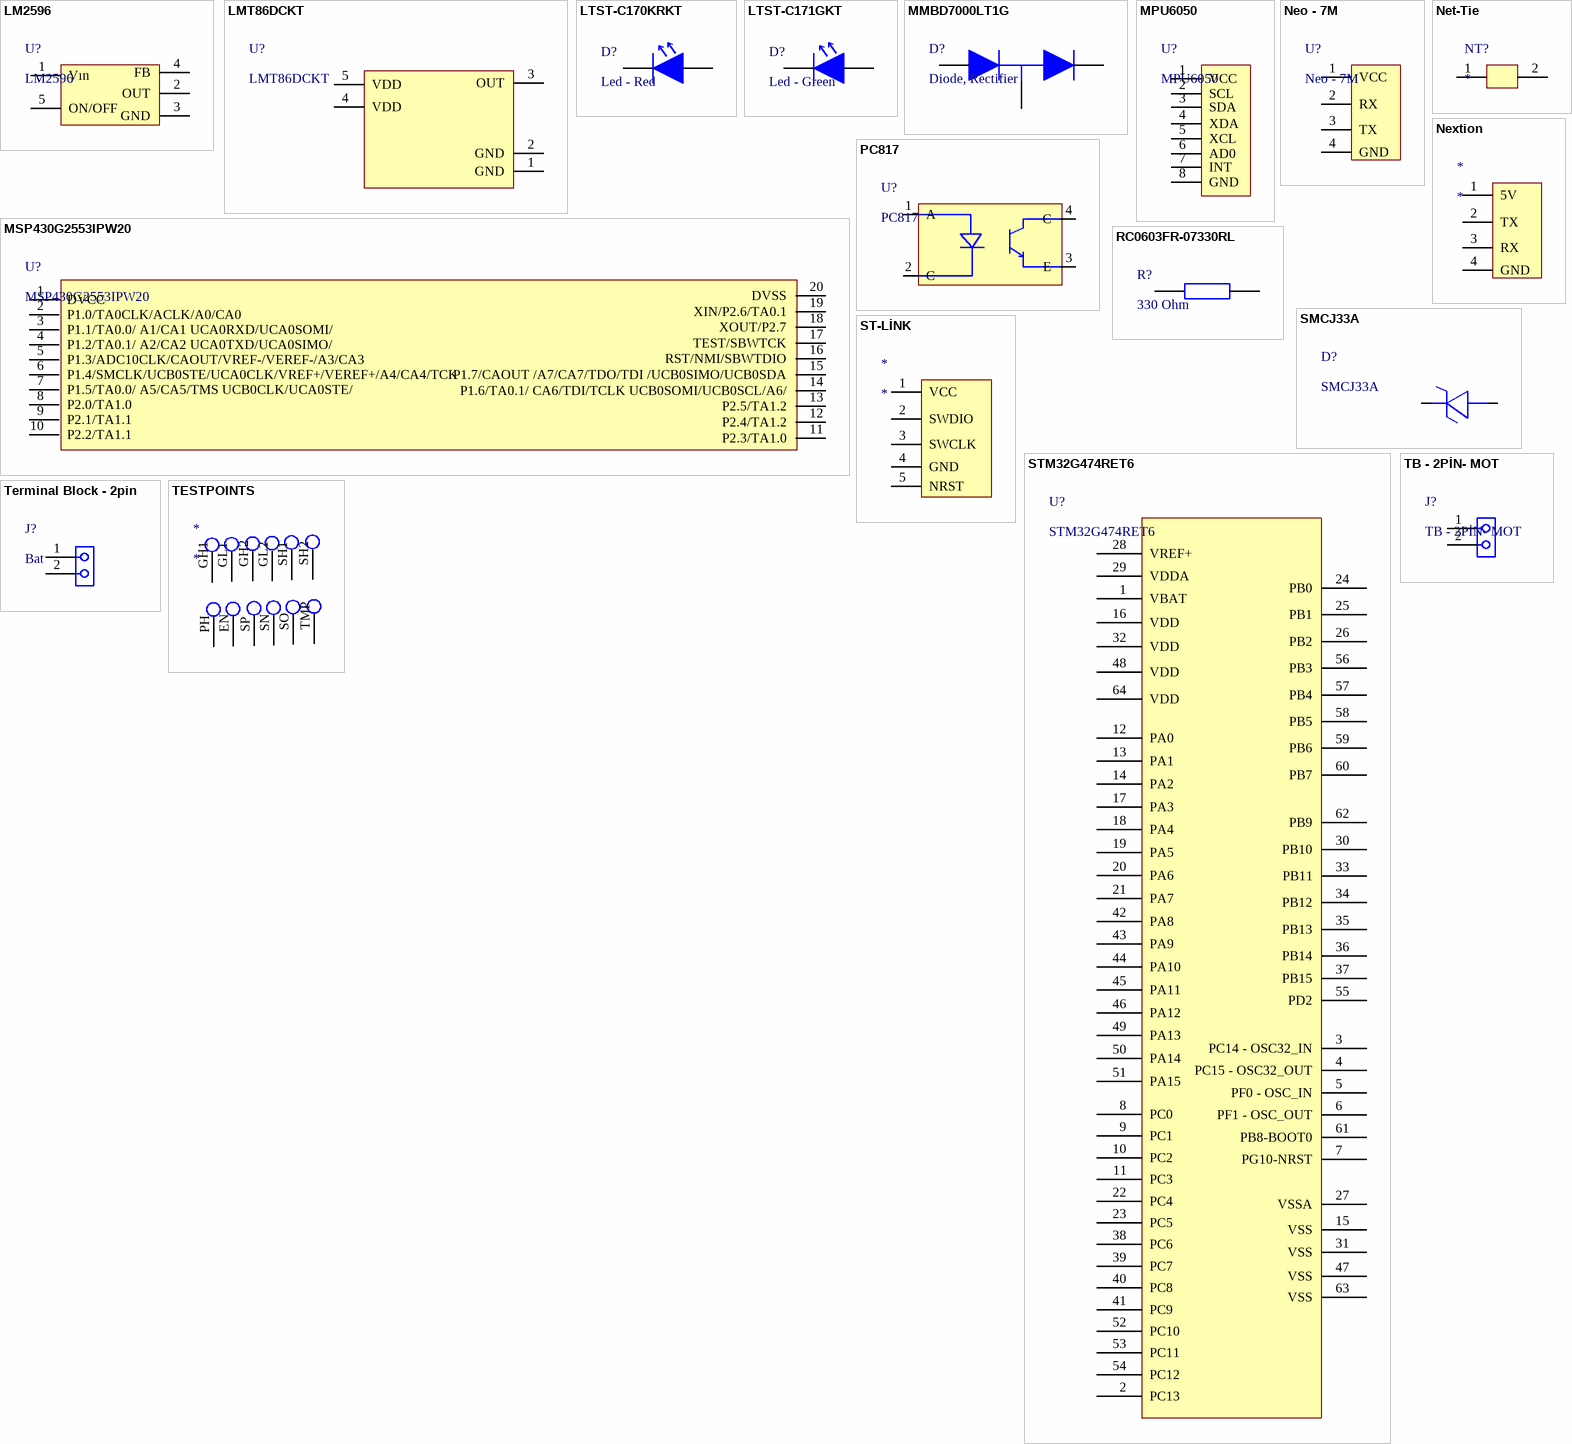
[diagram p1: symbols LM2596 to TESTPOINTS]

## LM2596
designator U?
Conv DC-DC 4.5V to 40V Step Down Single-Out 1.23V to 37V 3A 6-Pin(5+Tab) D2PAK Tube; Manufacturer: onsemi; Manufacturer Part Number: LM2596DSADJG; Manufacturer Lifecycle Status: ACTIVE; Efficiency: 73%; Max Duty Cycle: 95%; Max Junction Temperature (Tj): 125°C; Max Output current: 7.5A; Max Switching Frequency: 180kHz; Nominal Supply Voltage: 12V; Nominal Output Voltage: 5V; Nominal Supply Current: 5mA; Number of Channels: 1; Output Type: Adjustable; Switching Frequency: 150Hz; Synchronous Rectifier: No; Topology: Buck; Supplier: Farnell; Supplier Part Number: 2534162; RoHS: Compliant; Category: Voltage Regulators - Switching; Stock: 7042; Pricing: 1=2,23, 10=1,74, 50=1,46, 100=1,4, 250=1,26, 500=1,24, 1000=1,22, 2500=1,18 (EUR); Case/Package: D2PAK; China RoHS: Non-Compliant; Contact Plating: Tin; Halogen Free: Halogen Free; Height: 4.826mm; Lead Free: Lead Free; Length: 10.02mm; Lifecycle Status: Production; Max Supply Voltage: 40V; Max Operating Temperature: 125°C; Max Output Voltage: 37V; Min Input Voltage: 4.5V; Min Operating Temperature: -40°C; Min Output Voltage: 1.23V; Min Supply Voltage: 4.5V; Mounting Technology: Surface Mount; Number of Circuits: 1; Number of Outputs: 1; Pins: 5; Number of Terminals: 5; Operating Supply Voltage: 40V; Output Current: 3A; Output Voltage: 37V; Radiation Hardening: No; REACH SVHC: No; Schedule B: 8542390000, 8542390000|8542390000|8542390000|8542390000|8542390000; Terminal Pitch: 1.702mm; Width: 9.1945mm; ComponentLink1URL: https://datasheet.octopart.com:443/LM2596DSADJG-ON-Semiconductor-datasheet-11796857.pdf?src-supplier=JRH+Electronics; ComponentLink1Description: https://datasheet.octopart.com:443/LM2596DSADJG-ON-Semiconductor-datasheet-11796857.pdf?src-supplier=JRH+Electronics; ComponentLink2URL: https://datasheet.octopart.com:443/LM2596DSADJG-onsemi-datasheet-180961345.pdf?src-supplier=Farnell; ComponentLink2Description: https://datasheet.octopart.com:443/LM2596DSADJG-onsemi-datasheet-180961345.pdf?src-supplier=Farnell; ComponentLink3URL: https://sigma.octopart.com:443/138898132/technical_drawing/ON-Semiconductor-LM2596DSADJG.pdf?src-supplier=Upverter; ComponentLink3Description: https://sigma.octopart.com:443/138898132/technical_drawing/ON-Semiconductor-LM2596DSADJG.pdf?src-supplier=Upverter; ComponentLink4URL: https://datasheet.octopart.com:443/LM2596DSADJG-ON-Semiconductor-datasheet-62289847.pdf?src-supplier=element14+APAC; ComponentLink4Description: https://datasheet.octopart.com:443/LM2596DSADJG-ON-Semiconductor-datasheet-62289847.pdf?src-supplier=element14+APAC; ComponentLink5URL: https://datasheet.octopart.com:443/LM2596DSADJG-ON-Semiconductor-datasheet-130255974.pdf?src-supplier=TME; ComponentLink5Description: https://datasheet.octopart.com:443/LM2596DSADJG-ON-Semiconductor-datasheet-130255974.pdf?src-supplier=TME; ComponentLink6URL: https://datasheet.octopart.com:443/LM2596DSADJG-ON-Semiconductor-datasheet-41764107.pdf?src-supplier=RS+(Formerly+Allied+Electronics); ComponentLink6Description: https://datasheet.octopart.com:443/LM2596DSADJG-ON-Semiconductor-datasheet-41764107.pdf?src-supplier=RS+(Formerly+Allied+Electronics); ComponentLink7URL: http://sigma.octopart.com:80/15540786/rohs_certificate/ON-Semiconductor-LM2596DSADJG.pdf?src-supplier=Compliance+Statements; ComponentLink7Description: http://sigma.octopart.com:80/15540786/rohs_certificate/ON-Semiconductor-LM2596DSADJG.pdf?src-supplier=Compliance+Statements; ComponentLink8URL: http://sigma.octopart.com:80/15676848/materials_sheet/ON-Semiconductor-LM2596DSADJG.csv?src-supplier=Compliance+Statements; ComponentLink8Description: http://sigma.octopart.com:80/15676848/materials_sheet/ON-Semiconductor-LM2596DSADJG.csv?src-supplier=Compliance+Statements; ComponentLink9URL: http://sigma.octopart.com:80/150613181/rohs_statement/ON-Semiconductor-LM2596DSADJG.pdf?src-supplier=Compliance+Statements; ComponentLink9Description: http://sigma.octopart.com:80/150613181/rohs_statement/ON-Semiconductor-LM2596DSADJG.pdf?src-supplier=Compliance+Statements; ComponentLink10URL: http://sigma.octopart.com:80/reach_statement/ON-Semiconductor-company-79.pdf?src-supplier=Compliance+Statements; ComponentLink10Description: http://sigma.octopart.com:80/reach_statement/ON-Semiconductor-company-79.pdf?src-supplier=Compliance+Statements; ComponentLink11URL: https://octopart.com:443/opatz8j6/c1?t=oT4azNMBCRdNr4JB2es6ib24tMsaAQUbmMEJXGIb7MTKDbdgd3KKbfJR36CtWkgzryCe2qI11MR_nrhpaW3ZGFx62WySwDlBob3uoPAUucWHklYx0BaMJ_-iQ0FVxO1J7T1_lBmpr6Xa-RwUeyt-289S9K0kgAiDjFPfrYNjZ-7HUJXsVaPSLe6623QdEXGrn5ut6XGXdlM2XAV6LQCO9fcg-V1bvlb77HZ5dQI5txPPGBwKzQ-O_MvKaygEutqLX-m_VvBPVeFhc-eIqmBYap3x8SR8Us1Mdzu7U--B1WHN_ktKy_7Cpts17e9YaRHt96YZwqNpnI4vxPPbibjTIaO5tOBQVudy7bRTr0uOrn0&src-supplier=Compliance+Statements; ComponentLink11Description: https://octopart.com:443/opatz8j6/c1?t=oT4azNMBCRdNr4JB2es6ib24tMsaAQUbmMEJXGIb7MTKDbdgd3KKbfJR36CtWkgzryCe2qI11MR_nrhpaW3ZGFx62WySwDlBob3uoPAUucWHklYx0BaMJ_-iQ0FVxO1J7T1_lBmpr6Xa-RwUeyt-289S9K0kgAiDjFPfrYNjZ-7HUJXsVaPSLe6623QdEXGrn5ut6XGXdlM2XAV6LQCO9fcg-V1bvlb77HZ5dQI5txPPGBwKzQ-O_MvKaygEutqLX-m_VvBPVeFhc-eIqmBYap3x8SR8Us1Mdzu7U--B1WHN_ktKy_7Cpts17e9YaRHt96YZwqNpnI4vxPPbibjTIaO5tOBQVudy7bRTr0uOrn0&src-supplier=Compliance+Statements; ComponentLink12URL: https://octopart.com:443/opatz8j6/c1?t=Dg2TvkwHK56choIH4o1UeiJEbNHaQuOp4jXveqQ-QKgJvRtRpJDRB4WzsWQQe-X1Yn940rt-yMOdkVo9dLItVNRkZsEPflQAfOoSTh_i3W12TKwdTZggiVL5GhB3g0xAvn-cbksnNXbkP3Y1q5okPlQdUk_tuihM5cOUhOlv_D7nNvDg6i35cMc6102nZhEEe-vjBEPf2fOSvnAmys-NC5C3iuqjw6pZ3_Mt5xXK8OYTznpIyE5gNPlnpx207o-CJtnQrTeg-O7-8ZlG_TIdoFmJeJJnOVqfmMBVC_6LU1whf0jybcgkVv2AXQSl74opr3FjWrT99UyS1IpWb1sY9hqrV4xjhbo9eZQmjD3Ziw&src-supplier=Compliance+Statements; ComponentLink12Description: https://octopart.com:443/opatz8j6/c1?t=Dg2TvkwHK56choIH4o1UeiJEbNHaQuOp4jXveqQ-QKgJvRtRpJDRB4WzsWQQe-X1Yn940rt-yMOdkVo9dLItVNRkZsEPflQAfOoSTh_i3W12TKwdTZggiVL5GhB3g0xAvn-cbksnNXbkP3Y1q5okPlQdUk_tuihM5cOUhOlv_D7nNvDg6i35cMc6102nZhEEe-vjBEPf2fOSvnAmys-NC5C3iuqjw6pZ3_Mt5xXK8OYTznpIyE5gNPlnpx207o-CJtnQrTeg-O7-8ZlG_TIdoFmJeJJnOVqfmMBVC_6LU1whf0jybcgkVv2AXQSl74opr3FjWrT99UyS1IpWb1sY9hqrV4xjhbo9eZQmjD3Ziw&src-supplier=Compliance+Statements
footprint LM2596 (LM2596 SIMPLE SWITCHER® Power Converter 150-kHz / 3-A Step-Down Voltage Regulator)
pins: 1 Vın, 2 OUT, 3 GND, 4 FB, 5 ON/OFF